# Altium footprint library Footprints.PcbLib: 3 footprints
Each footprint in its own frame and in the unit in brackets; x right, y up, seen from the top. Pads: shape width x height; smd on the part's side, far side on the other; paste and mask are expansions set on the pad; w line width, h text height; cw(c..) or ccw(c..) is an arc to the next point about the centre after c.
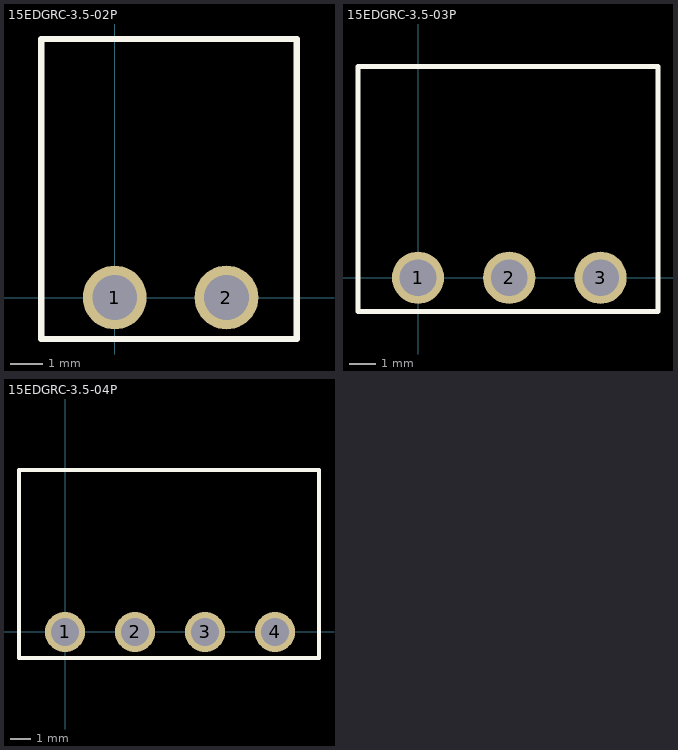
[diagram p0: the footprints below, top view; thin cyan lines are the x and y axes]

## 15EDGRC-3.5-02P [mm]
height 7
pads (2):
  round 2 hole 1.4: 1(0,0) 2(3.5,0)
Top Overlay:
  lines w0.2: -2.3,-1.3 -2.3,8.1 5.7,8.1 5.7,-1.3 -2.3,-1.3
3D body "15EDGRC-3_5-2.STEP": height 7.2, standoff -3.4, extent -2.2,-1.2 5.6,8

## 15EDGRC-3.5-03P [mm]
height 7
pads (3):
  round 2 hole 1.4: 1(0,0) 2(3.5,0) 3(7,0)
Top Overlay:
  lines w0.2: -2.3,-1.3 -2.3,8.1 9.2,8.1 9.2,-1.3 -2.3,-1.3
3D body "15EDGRC-3_5-3.STEP": height 7.2, standoff -3.4, extent -2.2,-1.2 9.1,8

## 15EDGRC-3.5-04P [mm]
height 7
pads (4):
  round 2 hole 1.4: 1(0,0) 2(3.5,0) 3(7,0) 4(10.5,0)
Top Overlay:
  lines w0.2: -2.3,-1.3 -2.3,8.1 12.7,8.1 12.7,-1.3 -2.3,-1.3
3D body "15EDGRC-3_5-4.STEP": height 7.2, standoff -3.4, extent -2.2,-1.2 12.6,8